# Altium footprint library LM338T.PCBLIB: 1 footprints
Each footprint in its own frame and in the unit in brackets; x right, y up, seen from the top. Pads: shape width x height; smd on the part's side, far side on the other; paste and mask are expansions set on the pad; w line width, h text height; cw(c..) or ccw(c..) is an arc to the next point about the centre after c.
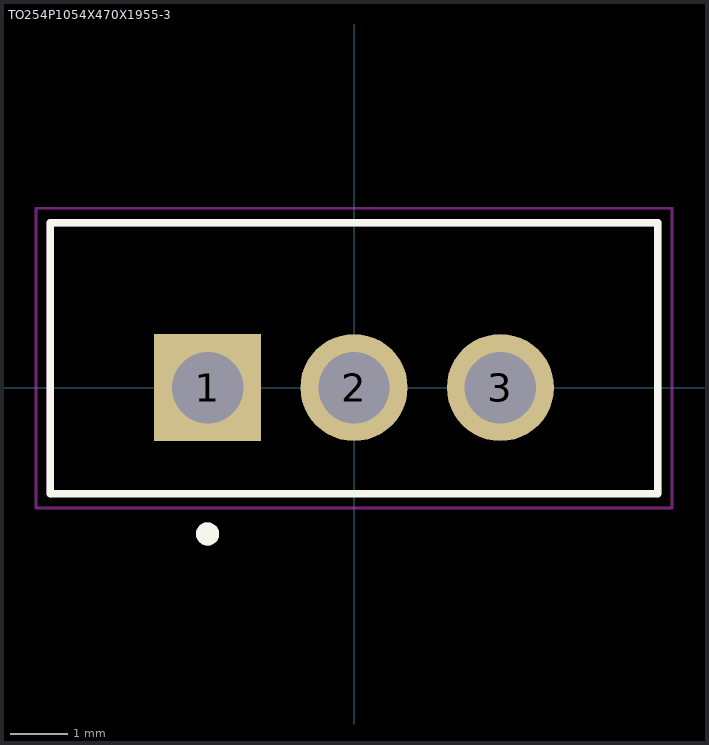
[diagram p0: the footprint, top view; thin cyan lines are the x and y axes]

## TO254P1054X470X1955-3 [mil]
pads (3):
  rect 73.23x73.23 / inner round 67.66 / far side rect 73.23x73.23 hole 48.82: 1(-100,0)
  round 73.23 hole 48.82: 2(0,0) 3(100,0)
Top keep-out:
  lines w1.97: -217.32,-82.28 217.32,-82.28 217.32,122.44 -217.32,122.44 -217.32,-82.28
Top Overlay:
  circle w7.87: c-100,-100 r3.94
  lines w5: -207.48,-72.44 -207.48,112.6 207.48,112.6 207.48,-72.44 ; -207.48,-72.44 207.48,-72.44 ; -207.48,-72.44 207.48,-72.44
tDocu:
  circle w7.87: c-100,-100 r3.94
tPlace:
  lines w5: -207.48,-72.44 -207.48,112.6 207.48,112.6 207.48,-72.44
3D body "LM338_NOPB.STEP": height 770, standoff -385, extent -199.99,-69.99 200.01,110.01